# Altium footprint library 61300211121.PCBLIB: 1 footprints
Each footprint in its own frame and in the unit in brackets; x right, y up, seen from the top. Pads: shape width x height; smd on the part's side, far side on the other; paste and mask are expansions set on the pad; w line width, h text height; cw(c..) or ccw(c..) is an arc to the next point about the centre after c.
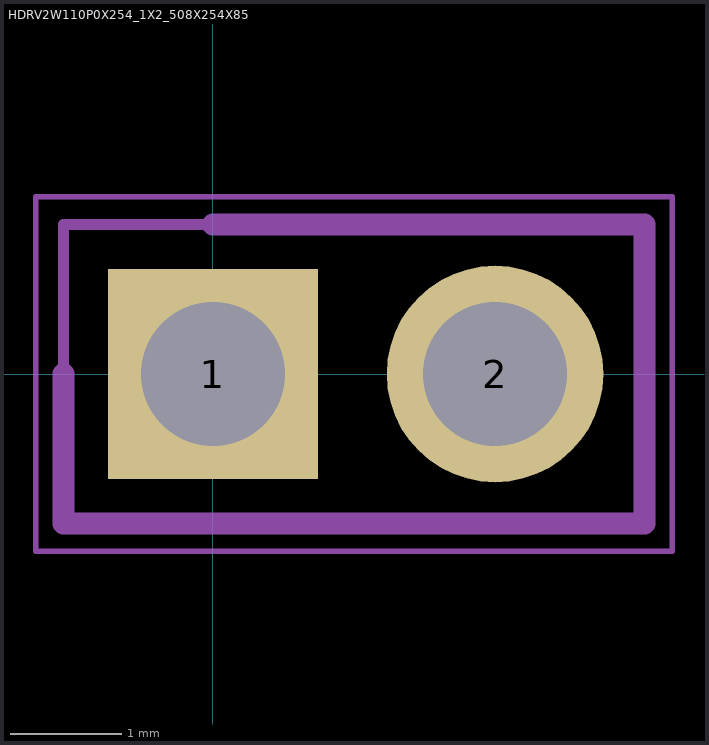
[diagram p0: the footprint, top view; thin cyan lines are the x and y axes]

## HDRV2W110P0X254_1X2_508X254X85 [mm]
pads (2):
  rect 1.888x1.888 / inner rect 1.524x1.524 / far side rect 1.888x1.888 hole 1.3: 1(0,0)
  round 1.95 / inner round 1.524 / far side round 1.95 hole 1.3: 2(2.54,0)
Mechanical 8:
  lines w0.05: -1.595,-1.595 -1.595,1.595 4.135,1.595 4.135,-1.595 -1.595,-1.595
  lines w0.1: -1.345,-1.345 -1.345,1.345 3.885,1.345 3.885,-1.345 -1.345,-1.345
Mechanical 22:
  lines w0.2: -1.345,0 -1.345,-1.345 3.885,-1.345 3.885,1.345 0,1.345